# Altium schematic symbol library ICs.SCHLIB: 55 symbols
Pins are listed as number, name and electrical type; pins without a type are passive.

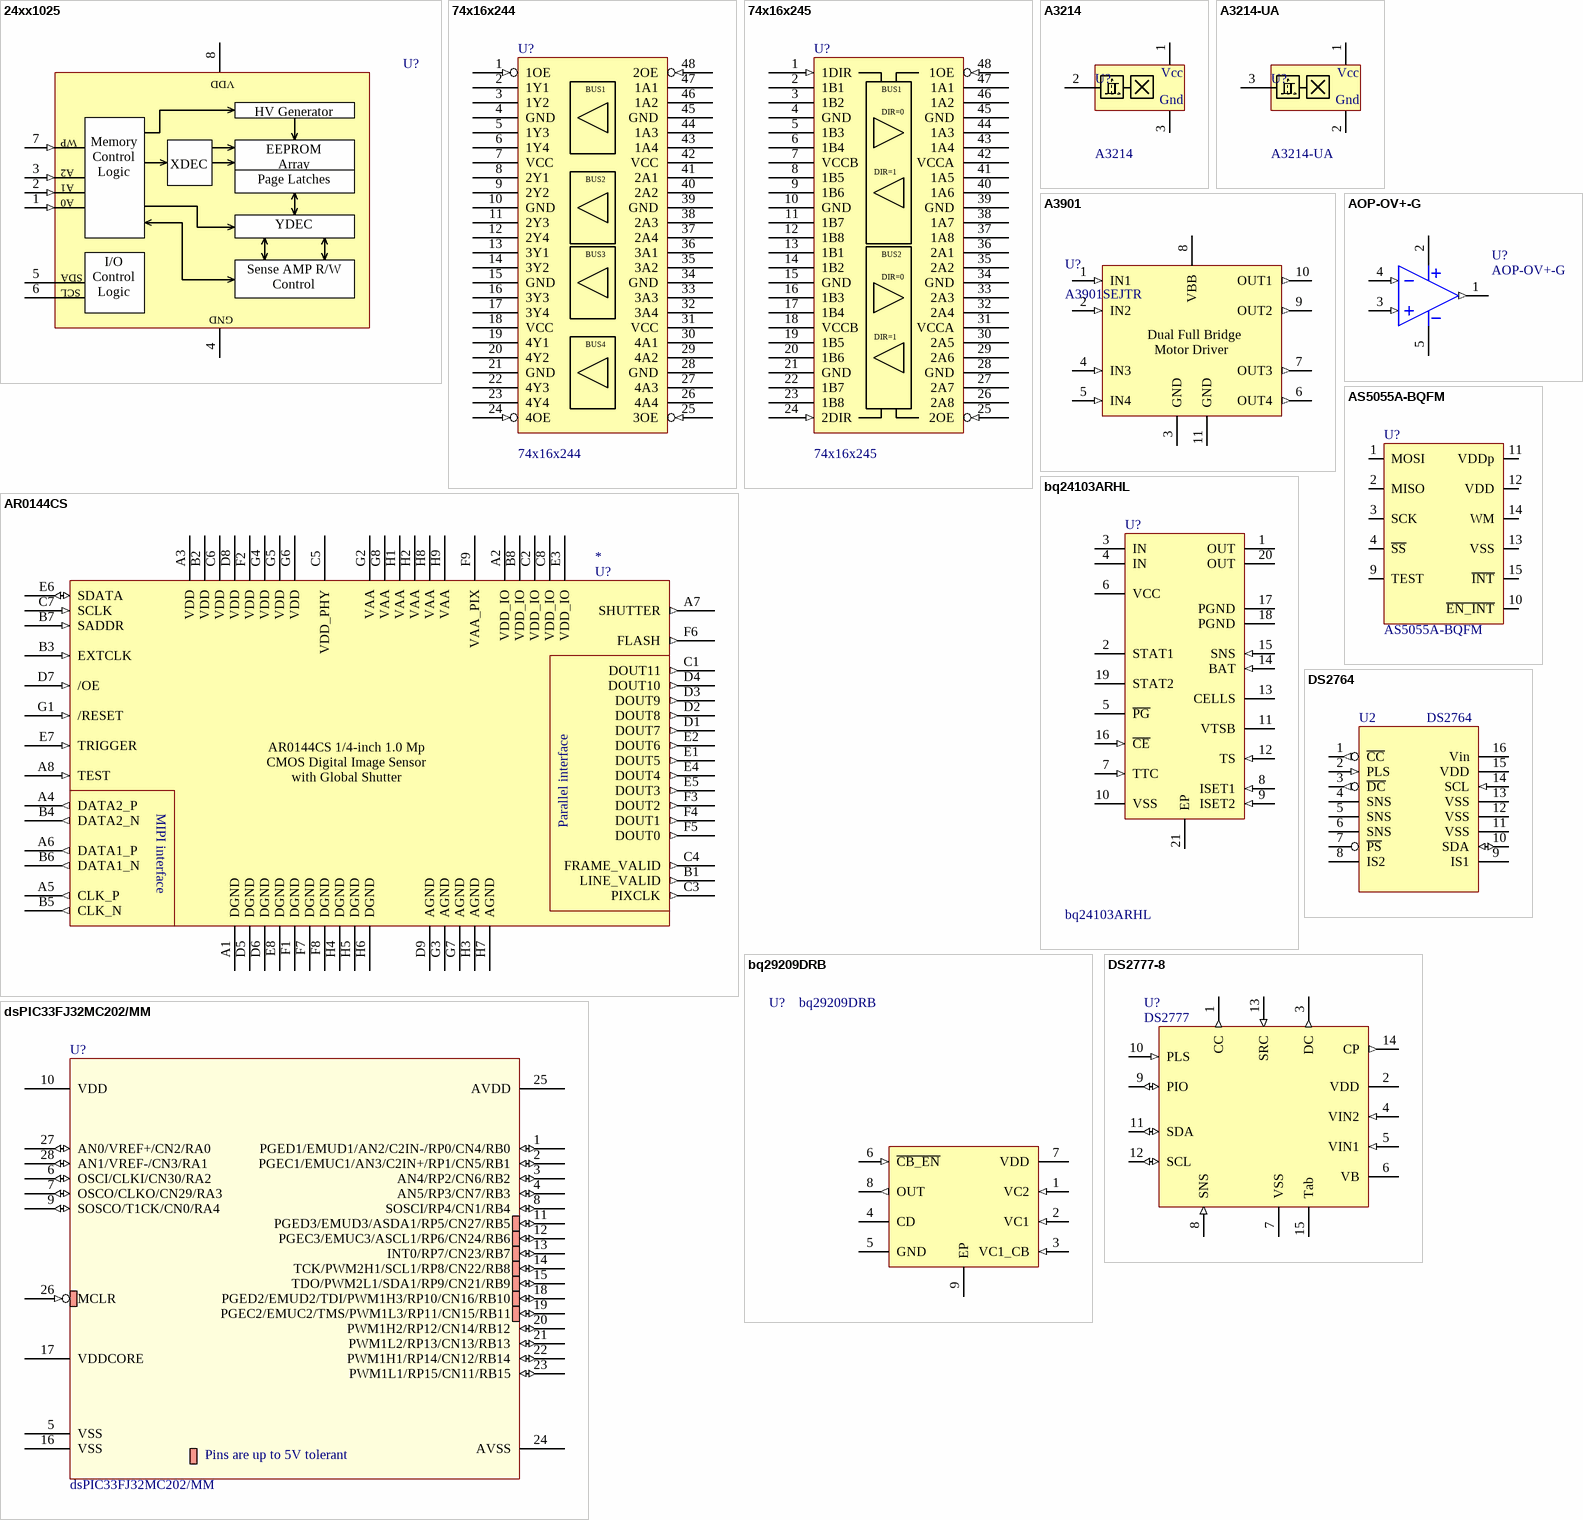
[diagram p0: symbols 24xx1025 to dsPIC33FJ32MC202/MM]

## 24xx1025
designator U?
1024K I2C CMOS Serial EEPROM
pins: 1 A0 (in), 2 A1 (in), 3 A2 (in), 4 GND (power), 5 SDA (oc), 6 SCL (oc), 7 WP (in), 8 VCC (power)
text: VDD; HV Generator; EEPROM / Array; / XDEC; Page Latches; / Memory Control Logic; YDEC; Sense AMP R/W Control; I/O Control Logic

## 74x16x244
designator U?
Low Voltage 16-Bit Buffer/Line Driver with Bushold
pins: 1 1OE (in), 2 1Y1, 3 1Y2, 4 GND (power), 5 1Y3, 6 1Y4, 7 VCC (power), 8 2Y1, 9 2Y2, 10 GND (power), 11 2Y3, 12 2Y4, 13 3Y1, 14 3Y2, 15 GND (power), 16 3Y3, 17 3Y4, 18 VCC (power), 19 4Y1, 20 4Y2, 21 GND (power), 22 4Y3, 23 4Y4, 24 4OE (in), 25 3OE (in), 26 4A4, 27 4A3, 28 GND (power), 29 4A2, 30 4A1, 31 VCC (power), 32 3A4, 33 3A3, 34 GND (power), 35 3A2, 36 3A1, 37 2A4, 38 2A3, 39 GND (power), 40 2A2, 41 2A1, 42 VCC (power), 43 1A4, 44 1A3, 45 GND (power), 46 1A2, 47 1A1, 48 2OE (in)
text: BUS1; BUS2; BUS3; BUS4

## 74x16x245
designator U?
pins: 1 1DIR (in), 2 1B1, 3 1B2, 4 GND (power), 5 1B3, 6 1B4, 7 VCCB (power), 8 1B5, 9 1B6, 10 GND (power), 11 1B7, 12 1B8, 13 1B1, 14 1B2, 15 GND (power), 16 1B3, 17 1B4, 18 VCCB (power), 19 1B5, 20 1B6, 21 GND (power), 22 1B7, 23 1B8, 24 2DIR (in), 25 2OE (in), 26 2A8, 27 2A7, 28 GND (power), 29 2A6, 30 2A5, 31 VCCA (power), 32 2A4, 33 2A3, 34 GND (power), 35 2A2, 36 2A1, 37 1A8, 38 1A7, 39 GND (power), 40 1A6, 41 1A5, 42 VCCA (power), 43 1A4, 44 1A3, 45 GND (power), 46 1A2, 47 1A1, 48 1OE (in)
text: BUS1; DIR=0; DIR=1; BUS2

## A3214
designator U?
Micropower ultra-sensitive Hall-Effect Switches, no SIP version; Publisher: Altium Limited
footprint SOT95P230X111-3L (SOT23, 3-Leads, Body 3.0x2.5mm (max), Pitch 0.95mm, IPC High Density)
pins: 1 VCC (power), 2 OUT (oc), 3 GND (power)
text: Vcc; Gnd

## A3214-UA
designator U?
Micropower ultra-sensitive Hall-Effect Switches, SIP version; Publisher: Altium Limited
footprint ALLEGRO-3214-UA (Micropower ultra-sensitive Hall-Effect Switches, UA package)
pins: 1 VCC (power), 2 GND (power), 3 OUT (oc)
text: Vcc; Gnd

## A3901
designator U?, comment A3901SEJTR
Dual Full Bridge Low Voltage Motor Driver
footprint SOIC127P1030-20N (SOIC, 20-Leads, Body 12.8x7.5mm, Pitch 1.27mm, IPC Medium Density)
pins: 1 IN1 (in) "Logic input 1", 2 IN2 (in) "Logic input 2", 3 GND (power) "Ground", 4 IN3 (in) "Logic input 3", 5 IN4 (in) "Logic input 4", 6 OUT4 (out) "Bridge 4 output", 7 OUT3 (out) "Bridge 3 output", 8 VBB (power) "Load supply", 9 OUT2 (out) "Bridge 2 output", 10 OUT1 (out) "Bridge 1 output", 11 GND (power) "Exposed pad for thermal dissipation; connect to GND externally"
text: Dual Full Bridge / Motor Driver

## AOP-OV+-G
designator U?
AOP-Output-Vcc-Plus-Minus-Gnd
pins: 1 OUT (out), 2 VCC (power), 3 IN+ (in), 4 IN- (in), 5 GND (power)

## AR0144CS
designator U?
AR0144CS 1/4‐inch 1.0 Mp CMOS Digital Image Sensor with Global Shutter
footprint ONSEMI-ODCSP69_570BBV (ODCSP69 5.545x5.565, CASE 570BV, ISSUE B)
pins: A1 DGND (power) "Digital GND", A2 VDD_IO (power) "I/O supply power", A3 VDD (power) "Digital power", A4 DATA2_P (out) "MIPI serial data, lane 2, differential P", A5 CLK_P (out) "MIPI serial clock differential P", A6 DATA1_P (out) "MIPI serial data, lane 1, differential P", A7 SHUTTER (out) "Control of external mechanical shutter", A8 TEST (in) "Manufacturing test enable pin (connect to DGND)", B1 LINE_VALID (out) "Asserted when DOUT line data is valid", B2 VDD (power) "Digital power", B3 EXTCLK (in) "External input clock", B4 DATA2_N (out) "MIPI serial data, lane 2, differential N", B5 CLK_N (out) "MIPI serial clock differential N", B6 DATA1_N (out) "MIPI serial data, lane 1, differential N", B7 SADDR (in) "Two-Wire Serial address select", B8 VDD_IO (power) "I/O supply power", C1 DOUT11 (out) "Parallel pixel data output", C2 VDD_IO (power) "I/O supply power", C3 PIXCLK (out) "Pixel clock out. DOUT is valid on rising edge of this clock", C4 FRAME_VALID (out) "Asserted when DOUT frame data is valid", C5 VDD_PHY (power) "MIPI power supply (1.2 V)", C6 VDD (power) "Digital power", C7 SCLK (in) "Two-Wire Serial clock input", C8 VDD_IO (power) "I/O supply power", D1 DOUT7 (out) "Parallel pixel data output", D2 DOUT8 (out) "Parallel pixel data output", D3 DOUT9 (out) "Parallel pixel data output", D4 DOUT10 (out) "Parallel pixel data output", D5 DGND (power) "Digital GND", D6 DGND (power) "Digital GND", D7 /OE (in) "Output enable (active LOW)", D8 VDD (power) "Digital power", D9 AGND (power) "Analog GND", E1 DOUT5 (out) "Parallel pixel data output", E2 DOUT6 (out) "Parallel pixel data output", E3 VDD_IO (power) "I/O supply power", E4 DOUT4 (out) "Parallel pixel data output", E5 DOUT3 (out) "Parallel pixel data output", E6 SDATA (io) "Two-Wire Serial data I/O", E7 TRIGGER (in) "Exposure synchronization input", E8 DGND (power) "Digital GND", F1 DGND (power) "Digital GND", F2 VDD (power) "Digital power", F3 DOUT2 (out) "Parallel pixel data output", F4 DOUT1 (out) "Parallel pixel data output", F5 DOUT0 (out) "Parallel pixel data output", F6 FLASH (out) "Control signal to drive external light sources", F7 DGND (power) "Digital GND", F8 DGND (power) "Digital GND", F9 VAA_PIX (power) "Pixel power", G1 /RESET (in) "Asynchronous reset (active LOW). All settings are restored to factory", G2 VAA (power) "Analog Power", G3 AGND (power) "Analog GND", G4 VDD (power) "Digital power", G5 VDD (power) "Digital power", G6 VDD (power) "Digital power", G7 AGND (power) "Analog GND", G8 VAA (power) "Analog Power", H1 VAA (power) "Analog Power", H2 VAA (power) "Analog Power", H3 AGND (power) "Analog GND", H4 DGND (power) "Digital GND", H5 DGND (power) "Digital GND", H6 DGND (power) "Digital GND", H7 AGND (power) "Analog GND", H8 VAA (power) "Analog Power", H9 VAA (power) "Analog Power"
text: MIPI interface; Parallel interface

## AS5055A-BQFM
designator U?
IC ENCODER ROTARY 12BIT 16QFN; Manufacturer: ams; Statut de la pièce: Actif; Pour la mesure: Angle; Technologie: Effet Hall; Angle de rotation - Électrique, mécanique: 0° ~ 360°, Modes continue; Sortie: SPI; Type d’actionneur: Aimant externe, non inclus; Linéarité: ±1,41°; Alimentation en tension: 3 V ~ 3,6 V; Type de montage: Montage en surface; Style de terminaison: Languette CMS (SMT); Température d’utilisation: -40°C ~ 85°C; Supplier 1: Digi-Key; RoHS: RoHS Compliant; Category: Capteurs, transducteurs; Stock 1: 6192; Pricing 1: 1=6.54, 10=5.885, 25=5.362, 100=4.8388, 250=4.44644 (EUR); Plage linéaire: -; Signal de sortie: -; Résistance (Ohms): -; Tolérance de résistance: -; ComponentLink1URL: http://ams.com/eng/content/download/552323/1541717/300455; ComponentLink1Description: http://ams.com/eng/content/download/552323/1541717/300455; Supplier 2: RSComponents; Manufacturer Part Number: AS5055A-BQFM; Supplier Part Number 1: AS5055A-BQFMCT-ND; Supplier Part Number 2: 423478
footprint QFN4X4-16 - EPAD unconnected (Quad Flat No Lead, Plastic; 16 Terminals; Body 4 x 4 mm; Pitch 0.65 mm)
pins: 1 MOSI, 2 MISO, 3 SCK, 4 ~{SS}, 9 TEST, 10 ~{EN_INT}, 11 VDDp, 12 VDD, 13 VSS, 14 WM, 15 ~{INT}

## bq24103ARHL
designator U?
Synchronous Switch-Mode 2-Cell Li-Ion Charger with 2 A FET, Enhanced EMI Performance, 4.3 V, -40 to 85 degC, 20-pin QFN (RHL), Green (RoHS & no Sb/Br); Manufacturer: Texas Instruments; Over Voltage Protection: N; SubFamily: Battery Charge Management; Li-Ion: Y; Vin(Min)(V): 4.3; Eco-Plan: Green (RoHS & no Sb/Br); NiCd: N; PackageDescription: 20-Leads Plastic Quad Flatpack No-Lead, 4.5 x 3.5 x 0.9 mm Body, 0.5 mm Pitch, Exposed Pad; PartNumber: bq24103ARHL; ComponentLink1Description: Datasheet; PackageReference: RHL20-3050X2050TP; PackageVersion: revJ, Dec-2011; Mounting Technology: Surface Mount; DatasheetVersion: SLUS688G; Lead Acid: N; ComponentLink1URL: http://www.ti.com/general/docs/lit/getliterature.tsp?genericPartNumber=BQ24123&fileType=pdf; Li-Polymer: Y; NiMH: N
footprint RHL20-3050X2050TP (QFN, 20-Leads, Body 4.5x3.5mm, Pitch 0.5mm, Thermal Pad 3.05x2.05mm, TI Recommended)
pins: 1 OUT (power) "Charge current output inductor connection. Connect a zener TVS diode between OUT pin and PGND to clamp the voltage spike to protect the power MOSFETs during abnormal conditions.", 2 STAT1 (oc) "Charge status 1 (open-drain output). When the transistor turns on indicates charge in process. When it is off and with the condition of STAT2 indicates various charger conditions (See Table 1)", 3 IN (power) "Charger input voltage. Bypass it with a 10 uF capacitor from IN to PGND.", 4 IN (power) "Charger input voltage. Bypass it with a 10 uF capacitor from IN to PGND.", 5 ~{PG} (oc) "Power-good status output (open drain). The transistor turns on when a valid VCC is detected. It is turned off in the sleep mode. P\G\ can be used to drive a LED or communicate with a host processor.", 6 VCC (power) "Analog device input. A 0.1uF capacitor to VSS is required.", 7 TTC (in) "Timer and termination control. Connect a capacitor from this node to VSS to set the bqSWITCHER timer. When this input is low, the timer and termination detection are disabled.", 8 ISET1 (in) "Charger current set point 1 (fast charge). Use a resistor to ground to set this value.", 9 ISET2 (in) "Charge current set point 2 (precharge and termination), set by a resistor connected to ground.", 10 VSS (power) "Analog ground input.", 11 VTSB "TS internal bias regulator voltage. Connect capacitor (with a value between a 0.1uF and 1uF) between this output and VSS.", 12 TS (in) "Temperature sense input. This input monitors its voltage against an internal threshold to determine if charging is allowed. Use an NTC thermistor and a voltage divider powered from VTSB to develop this voltage. (See Figure (See Datasheet)", 13 CELLS "Available on parts with selectable output voltage. Ground or float for single-cell operation (4.2 V). For two-cell operation (8.4 V) pull up this pin with a resistor to VIN.", 14 BAT (in) "Battery voltage sense input. Bypass it with a capacitor to VSS if there are long inductive leads to battery.", 15 SNS (in) "Charge current-sense input. Battery current is sensed via the voltage drop developed on this pin by an external sense resistor in series with the battery pack. A 0.1uF capacitor to VSS is required.", 16 ~{CE} (in) "Charger enable input. This active low input, if set high, suspends charge and places the device in the low-power sleep mode. Do not pull up this input to VTSB.", 17 PGND (power) "Power ground input", 18 PGND (power) "Power ground input", 19 STAT2 (oc) "Charge status 2 (open-drain output). When the transistor turns on indicates charge is done. When it is off and with the condition of STAT1 indicates various charger conditions (See Table 1)", 20 OUT (power) "Charge current output inductor connection. Connect a zener TVS diode between OUT pin and PGND to clamp the voltage spike to protect the power MOSFETs during abnormal conditions.", 21 EP (power) "There is an internal electrical connection between the exposed thermal pad and VSS. The exposed thermal pad must be connected to the same potential as the VSS pin on the printed circuit board. The power pad can be used as a (See Datasheet)"

## bq29209DRB
designator U?
Voltage Protection with Automatic Cell Balance for 2-Cell Li-Ion Batteries, OVP=4.3 V, -40 to 85 degC, 8-pin SON (DRB), Green (RoHS & no Sb/Br); Manufacturer: Texas Instruments; Over Voltage Protection: N; SubFamily: Lithium Ion Protection; Mounting Technology: Surface Mount; PackageDescription: 8-Pin Plastic Small Outline No-Lead, 3 x 3 x 1 mm Body, 0.65 mm Pitch, Exposed Pad; ComponentLink1Description: Datasheet; PackageVersion: revK, Jun-2012; Li-Ion: N; Li-Polymer: N; PartNumber: bq29209DRB; DatasheetVersion: SLUSA52A; NiCd: N; ComponentLink1URL: http://www.ti.com/general/docs/lit/getliterature.tsp?genericPartNumber=BQ29209&fileType=pdf; PackageReference: DRB8-2400X1650TP; NiMH: N; Eco-Plan: Green (RoHS & no Sb/Br); Lead Acid: N
footprint DRB8-2400X1650TP (SON, 8-Leads, Body 3x3mm, Pitch 0.65mm, Thermal Pad 2.4x1.65mm, TI Recommended)
pins: 1 VC2 (in) "Sense voltage input for top cell", 2 VC1 (in) "Sense voltage input for bottom cell", 3 VC1_CB (in) "Cell balance input for bottom cell", 4 CD "Connection to external capacitor for programmable delay time", 5 GND (power) "Ground pin", 6 ~{CB_EN} (in) "Cell balance enable", 7 VDD (power) "Power supply", 8 OUT (out) "Output", 9 EP "Exposed Thermal Pad"

## DS2764
designator U2
Li+ Battery Monitor; RefSupplier: DS2764AE+; Supplier: Maxim; Type: Maxim; FootprintORG: TSOP65P640-16AM
footprint TSOP65P640-16AM (TSOP, 16-Leads, Body 5x4.4mm, Pitch 0.65mm, IPC Low Density)
pins: 1 ~{CC} (out), 2 PLS (in), 3 ~{DC} (out), 4 SNS, 5 SNS, 6 SNS, 7 ~{PS}, 8 IS2, 9 IS1, 10 SDA (io), 11 VSS, 12 VSS, 13 VSS, 14 SCL (in), 15 VDD (power), 16 Vin (power)

## DS2777-8
designator U?, comment DS2777
2-Cell, Stand-Alone, Li+ Fuel-Gauge IC with Protector and Optional SHA-1 Authentication; Manufacturer: Maxim; Manufacturer Nr: DS2777G+; Preference: 1; Currentie: CHF; Footprint Acort: ToDefine; Supplier: Farnell; ROHS: True
footprint ToDefine
pins: 1 CC (out) "Charge Control. Charge FET control output.", 2 VDD (power) "Chip-Supply Input. Bypass with 0.1uF to VSS.", 3 DC (out) "Discharge Control. Discharge FET control output.", 4 VIN2 (in) "Battery Voltage Sense Input 2. Connect to highest voltage potential positive cell terminal through  decoupling network.", 5 VIN1 (in) "Battery Voltage Sense Input 1. Connect to lowest voltage potential positive cell terminal through  decoupling network.", 6 VB (power) "Regulated Operating Voltage. Bypass with 0.1uF to VSS.", 7 VSS (power) "Device Ground. Chip ground and battery-side sense resistor input.", 8 SNS (in) "Sense Resistor Connection. Pack-side sense resistor sense input.", 9 PIO (io) "Programmable I/O. Can be configured as wake input.", 10 PLS (in) "Pack Plus Terminal Sense Input. Used to detect the removal of short-circuit, discharge overcurrent, and  charge overcurrent conditions.", 11 SDA (io) "Data Input/Output. Serial data I/O, includes weak pulldown to detect system disconnect.", 12 SCL (io) "Serial communication clock.", 13 SRC (in) "Protection MOSFET Source Connection. Used as a reference for the charge pump.", 14 CP (out) "Charge Pump Output. Generates gate drive voltage for protection FETs. Bypass with 0.47uF to SRC.", 15 Tab (power) "Exposed Pad. Connect to ground or leave unconnected."

## dsPIC33FJ32MC202/MM
designator U?
16-Bit CMOS dsPIC DSC Motor Control With 32kB Flash, 2kB Ram, 1 ADC, 1 I2C, 1 RS, 1 SPI, QFN28
pins: 1 PGED1/EMUD1/AN2/C2IN-/RP0/CN4/RB0 (io), 2 PGEC1/EMUC1/AN3/C2IN+/RP1/CN5/RB1 (io), 3 AN4/RP2/CN6/RB2 (io), 4 AN5/RP3/CN7/RB3 (io), 5 VSS (power), 6 OSCI/CLKI/CN30/RA2 (io), 7 OSCO/CLKO/CN29/RA3 (io), 8 SOSCI/RP4/CN1/RB4 (io), 9 SOSCO/T1CK/CN0/RA4 (io), 10 VDD (power), 11 PGED3/EMUD3/ASDA1/RP5/CN27/RB5 (io), 12 PGEC3/EMUC3/ASCL1/RP6/CN24/RB6 (io), 13 INT0/RP7/CN23/RB7 (io), 14 TCK/PWM2H1/SCL1/RP8/CN22/RB8 (io), 15 TDO/PWM2L1/SDA1/RP9/CN21/RB9 (io), 16 VSS (power), 17 VDDCORE (power), 18 PGED2/EMUD2/TDI/PWM1H3/RP10/CN16/RB10 (io), 19 PGEC2/EMUC2/TMS/PWM1L3/RP11/CN15/RB11 (io), 20 PWM1H2/RP12/CN14/RB12 (io), 21 PWM1L2/RP13/CN13/RB13 (io), 22 PWM1H1/RP14/CN12/RB14 (io), 23 PWM1L1/RP15/CN11/RB15 (io), 24 AVSS (power), 25 AVDD (power), 26 MCLR (in), 27 AN0/VREF+/CN2/RA0 (io), 28 AN1/VREF-/CN3/RA1 (io), 29 TAB (power) hidden
text: Pins are up to 5V tolerant

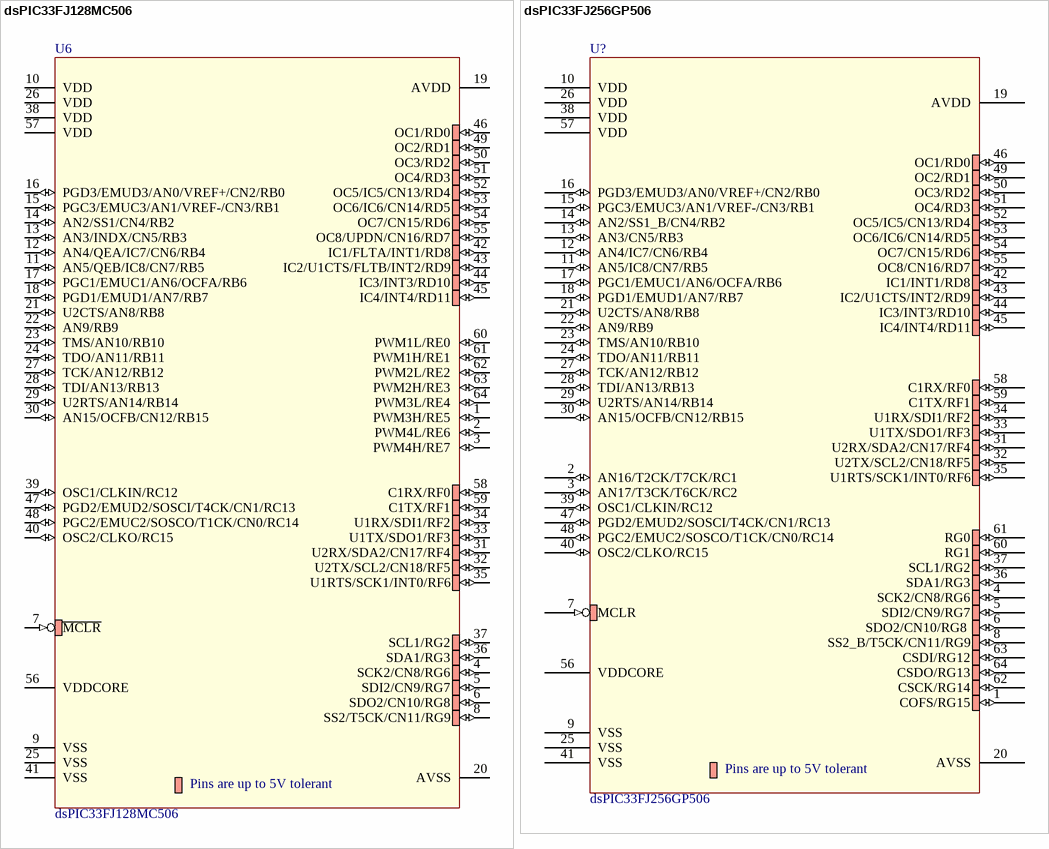
[diagram p1: symbols dsPIC33FJ128MC506 to dsPIC33FJ256GP506]

## dsPIC33FJ128MC506
designator U6
16-Bit CMOS dsPIC DSC Motor control With 128kB Flash, 16kB Ram, 1 ADC, 1 ECAN, 2 I2Cs, 2 RSs, 2 SPIs
footprint STQFP64 (Footprint not found)
pins: 1 PWM3H/RE5 (io), 2 PWM4L/RE6 (io), 3 PWM4H/RE7 (io), 4 SCK2/CN8/RG6 (io), 5 SDI2/CN9/RG7 (io), 6 SDO2/CN10/RG8 (io), 7 ~{MCLR} (in), 8 SS2/T5CK/CN11/RG9 (io), 9 VSS (power), 10 VDD (power), 11 AN5/QEB/IC8/CN7/RB5 (io), 12 AN4/QEA/IC7/CN6/RB4 (io), 13 AN3/INDX/CN5/RB3 (io), 14 AN2/SS1/CN4/RB2 (io), 15 PGC3/EMUC3/AN1/VREF-/CN3/RB1 (io), 16 PGD3/EMUD3/AN0/VREF+/CN2/RB0 (io), 17 PGC1/EMUC1/AN6/OCFA/RB6 (io), 18 PGD1/EMUD1/AN7/RB7 (io), 19 AVDD (power), 20 AVSS (power), 21 U2CTS/AN8/RB8 (io), 22 AN9/RB9 (io), 23 TMS/AN10/RB10 (io), 24 TDO/AN11/RB11 (io), 25 VSS (power), 26 VDD (power), 27 TCK/AN12/RB12 (io), 28 TDI/AN13/RB13 (io), 29 U2RTS/AN14/RB14 (io), 30 AN15/OCFB/CN12/RB15 (io), 31 U2RX/SDA2/CN17/RF4 (io), 32 U2TX/SCL2/CN18/RF5 (io), 33 U1TX/SDO1/RF3 (io), 34 U1RX/SDI1/RF2 (io), 35 U1RTS/SCK1/INT0/RF6 (io), 36 SDA1/RG3 (io), 37 SCL1/RG2 (io), 38 VDD (power), 39 OSC1/CLKIN/RC12 (io), 40 OSC2/CLKO/RC15 (io), 41 VSS (power), 42 IC1/FLTA/INT1/RD8 (io), 43 IC2/U1CTS/FLTB/INT2/RD9 (io), 44 IC3/INT3/RD10 (io), 45 IC4/INT4/RD11 (io), 46 OC1/RD0 (io), 47 PGD2/EMUD2/SOSCI/T4CK/CN1/RC13 (io), 48 PGC2/EMUC2/SOSCO/T1CK/CN0/RC14 (io), 49 OC2/RD1 (io), 50 OC3/RD2 (io), 51 OC4/RD3 (io), 52 OC5/IC5/CN13/RD4 (io), 53 OC6/IC6/CN14/RD5 (io), 54 OC7/CN15/RD6 (io), 55 OC8/UPDN/CN16/RD7 (io), 56 VDDCORE (power), 57 VDD (power), 58 C1RX/RF0 (io), 59 C1TX/RF1 (io), 60 PWM1L/RE0 (io), 61 PWM1H/RE1 (io), 62 PWM2L/RE2 (io), 63 PWM2H/RE3 (io), 64 PWM3L/RE4 (io)
text: Pins are up to 5V tolerant

## dsPIC33FJ256GP506
designator U?
16-Bit CMOS dsPIC DSC General purpose With 256kB Flash, 16kB Ram, 1 ADC, 1 ECAN, 2 I2Cs, 2 RSs, 2 SPIs, TQF64
pins: 1 COFS/RG15 (io), 2 AN16/T2CK/T7CK/RC1 (io), 3 AN17/T3CK/T6CK/RC2 (io), 4 SCK2/CN8/RG6 (io), 5 SDI2/CN9/RG7 (io), 6 SDO2/CN10/RG8  (io), 7 MCLR (in), 8 SS2_B/T5CK/CN11/RG9 (io), 9 VSS (power), 10 VDD (power), 11 AN5/IC8/CN7/RB5  (io), 12 AN4/IC7/CN6/RB4  (io), 13 AN3/CN5/RB3  (io), 14 AN2/SS1_B/CN4/RB2  (io), 15 PGC3/EMUC3/AN1/VREF-/CN3/RB1  (io), 16 PGD3/EMUD3/AN0/VREF+/CN2/RB0  (io), 17 PGC1/EMUC1/AN6/OCFA/RB6 (io), 18 PGD1/EMUD1/AN7/RB7 (io), 19 AVDD (power), 20 AVSS (power), 21 U2CTS/AN8/RB8 (io), 22 AN9/RB9 (io), 23 TMS/AN10/RB10 (io), 24 TDO/AN11/RB11 (io), 25 VSS (power), 26 VDD (power), 27 TCK/AN12/RB12 (io), 28 TDI/AN13/RB13 (io), 29 U2RTS/AN14/RB14 (io), 30 AN15/OCFB/CN12/RB15 (io), 31 U2RX/SDA2/CN17/RF4 (io), 32 U2TX/SCL2/CN18/RF5 (io), 33 U1TX/SDO1/RF3 (io), 34 U1RX/SDI1/RF2 (io), 35 U1RTS/SCK1/INT0/RF6 (io), 36 SDA1/RG3 (io), 37 SCL1/RG2 (io), 38 VDD (power), 39 OSC1/CLKIN/RC12 (io), 40 OSC2/CLKO/RC15 (io), 41 VSS (power), 42 IC1/INT1/RD8 (io), 43 IC2/U1CTS/INT2/RD9 (io), 44 IC3/INT3/RD10 (io), 45 IC4/INT4/RD11 (io), 46 OC1/RD0 (io), 47 PGD2/EMUD2/SOSCI/T4CK/CN1/RC13 (io), 48 PGC2/EMUC2/SOSCO/T1CK/CN0/RC14 (io), 49 OC2/RD1 (io), 50 OC3/RD2 (io), 51 OC4/RD3 (io), 52 OC5/IC5/CN13/RD4 (io), 53 OC6/IC6/CN14/RD5 (io), 54 OC7/CN15/RD6 (io), 55 OC8/CN16/RD7 (io), 56 VDDCORE (power), 57 VDD (power), 58 C1RX/RF0 (io), 59 C1TX/RF1 (io), 60 RG1 (io), 61 RG0 (io), 62 CSCK/RG14 (io), 63 CSDI/RG12 (io), 64 CSDO/RG13 (io)
text: Pins are up to 5V tolerant

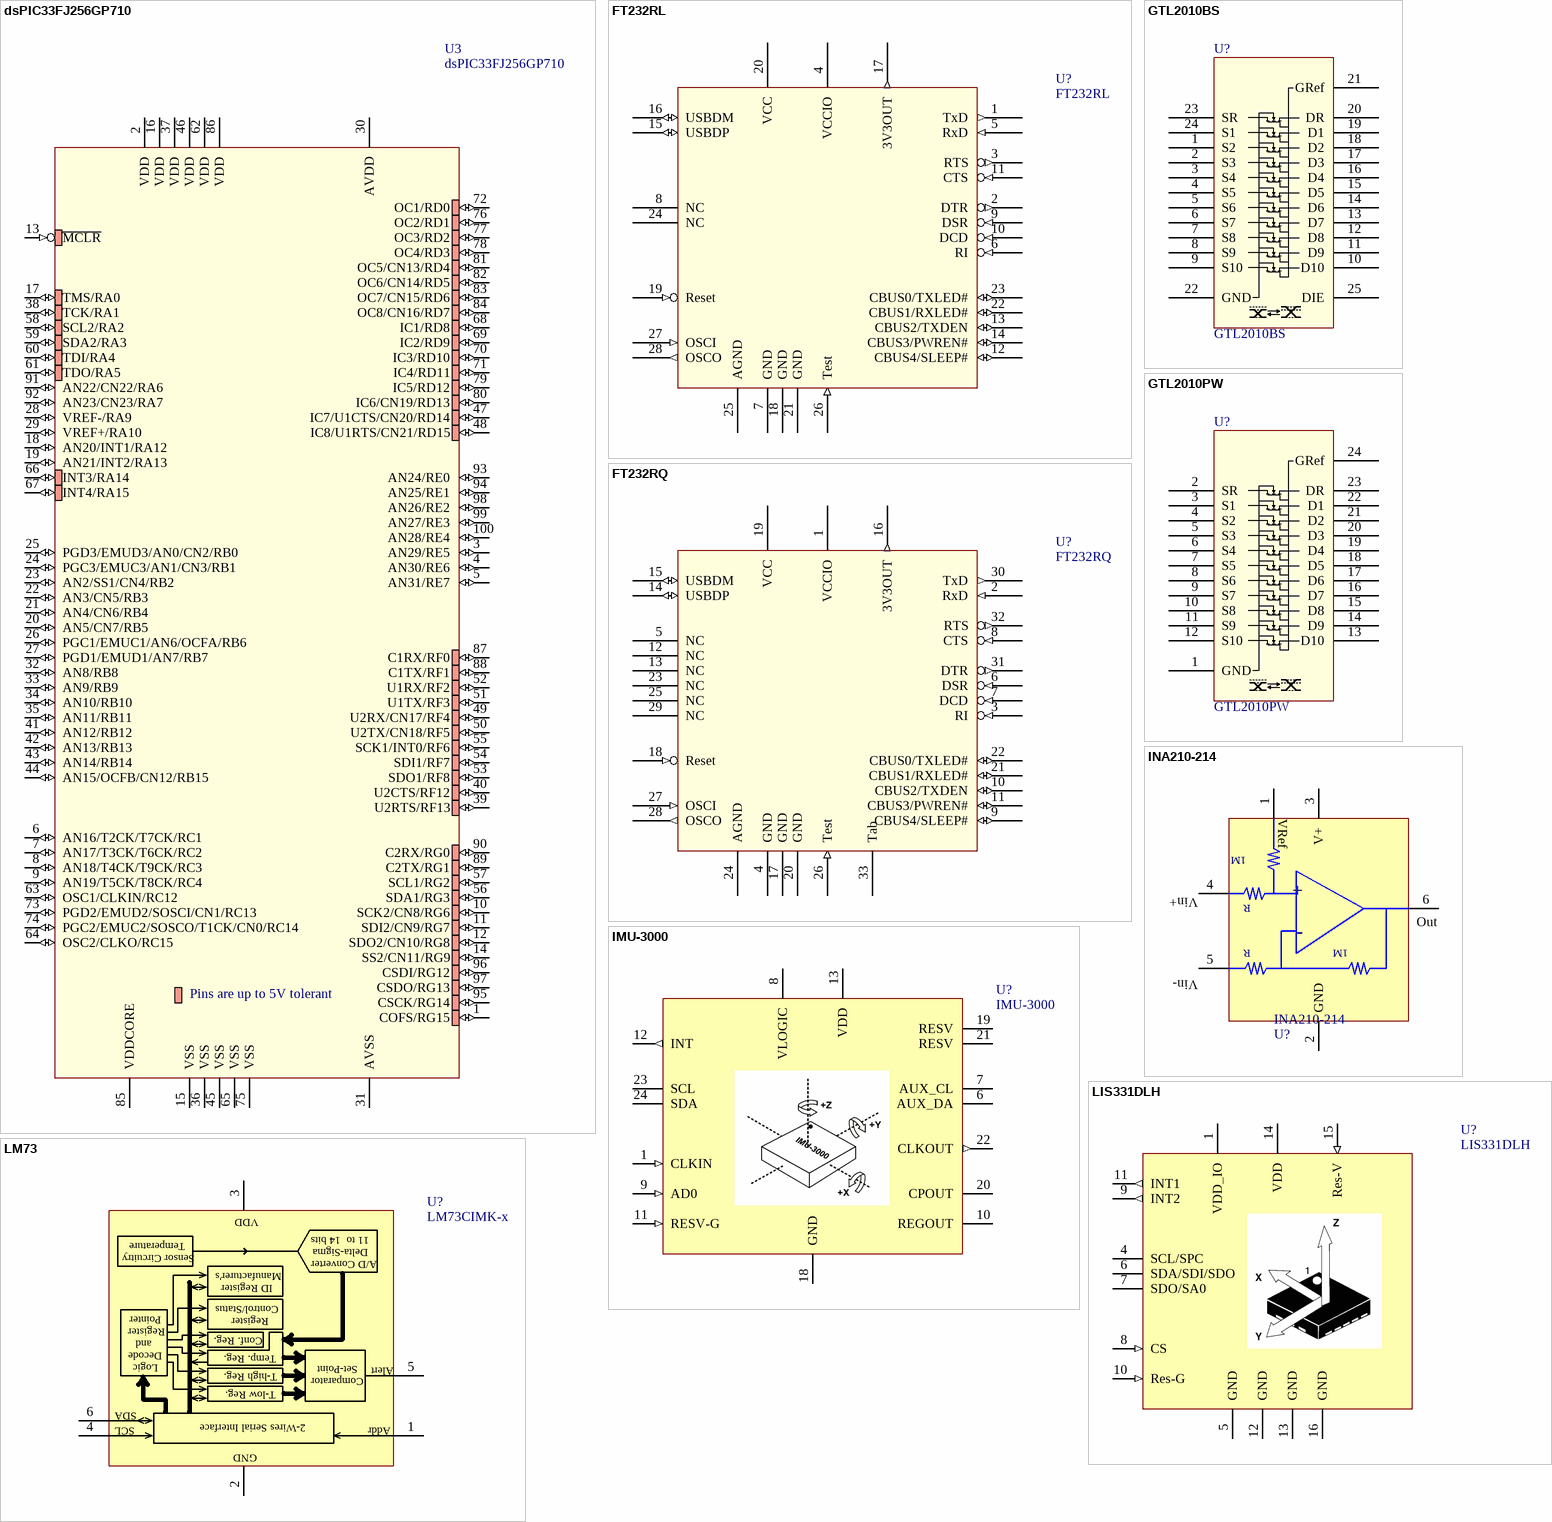
[diagram p2: symbols dsPIC33FJ256GP710 to LM73]

## dsPIC33FJ256GP710
designator U3
16-Bit CMOS dsPIC DSC General Purpose With 256kB Flash, 32kB Ram, 2 ADC, 2 ECAN, 2 I2Cs, 2 RSs, 2 SPIs, TQF100
footprint TQFP12X12_100_04MM (Footprint not found)
pins: 1 COFS/RG15 (io), 2 VDD (power), 3 AN29/RE5 (io), 4 AN30/RE6 (io), 5 AN31/RE7 (io), 6 AN16/T2CK/T7CK/RC1 (io), 7 AN17/T3CK/T6CK/RC2 (io), 8 AN18/T4CK/T9CK/RC3 (io), 9 AN19/T5CK/T8CK/RC4 (io), 10 SCK2/CN8/RG6 (io), 11 SDI2/CN9/RG7 (io), 12 SDO2/CN10/RG8 (io), 13 ~{MCLR} (in), 14 SS2/CN11/RG9 (io), 15 VSS (power), 16 VDD (power), 17 TMS/RA0 (io), 18 AN20/INT1/RA12 (io), 19 AN21/INT2/RA13 (io), 20 AN5/CN7/RB5 (io), 21 AN4/CN6/RB4 (io), 22 AN3/CN5/RB3 (io), 23 AN2/SS1/CN4/RB2 (io), 24 PGC3/EMUC3/AN1/CN3/RB1 (io), 25 PGD3/EMUD3/AN0/CN2/RB0 (io), 26 PGC1/EMUC1/AN6/OCFA/RB6 (io), 27 PGD1/EMUD1/AN7/RB7 (io), 28 VREF-/RA9 (io), 29 VREF+/RA10 (io), 30 AVDD (power), 31 AVSS (power), 32 AN8/RB8 (io), 33 AN9/RB9 (io), 34 AN10/RB10 (io), 35 AN11/RB11 (io), 36 VSS (power), 37 VDD (power), 38 TCK/RA1 (io), 39 U2RTS/RF13 (io), 40 U2CTS/RF12 (io), 41 AN12/RB12 (io), 42 AN13/RB13 (io), 43 AN14/RB14 (io), 44 AN15/OCFB/CN12/RB15 (io), 45 VSS (power), 46 VDD (power), 47 IC7/U1CTS/CN20/RD14 (io), 48 IC8/U1RTS/CN21/RD15 (io), 49 U2RX/CN17/RF4 (io), 50 U2TX/CN18/RF5 (io), 51 U1TX/RF3 (io), 52 U1RX/RF2 (io), 53 SDO1/RF8 (io), 54 SDI1/RF7 (io), 55 SCK1/INT0/RF6 (io), 56 SDA1/RG3 (io), 57 SCL1/RG2 (io), 58 SCL2/RA2 (io), 59 SDA2/RA3 (io), 60 TDI/RA4 (io), 61 TDO/RA5 (io), 62 VDD (power), 63 OSC1/CLKIN/RC12 (io), 64 OSC2/CLKO/RC15 (io), 65 VSS (power), 66 INT3/RA14 (io), 67 INT4/RA15 (io), 68 IC1/RD8 (io), 69 IC2/RD9 (io), 70 IC3/RD10 (io), 71 IC4/RD11 (io), 72 OC1/RD0 (io), 73 PGD2/EMUD2/SOSCI/CN1/RC13 (io), 74 PGC2/EMUC2/SOSCO/T1CK/CN0/RC14 (io), 75 VSS (power), 76 OC2/RD1 (io), 77 OC3/RD2 (io), 78 OC4/RD3 (io), 79 IC5/RD12 (io), 80 IC6/CN19/RD13 (io), 81 OC5/CN13/RD4 (io), 82 OC6/CN14/RD5 (io), 83 OC7/CN15/RD6 (io), 84 OC8/CN16/RD7 (io), 85 VDDCORE (power), 86 VDD (power), 87 C1RX/RF0 (io), 88 C1TX/RF1 (io), 89 C2TX/RG1 (io), 90 C2RX/RG0 (io), 91 AN22/CN22/RA6 (io), 92 AN23/CN23/RA7 (io), 93 AN24/RE0 (io), 94 AN25/RE1 (io), 95 CSCK/RG14 (io), 96 CSDI/RG12 (io), 97 CSDO/RG13 (io), 98 AN26/RE2 (io), 99 AN27/RE3 (io), 100 AN28/RE4 (io)
text: Pins are up to 5V tolerant

## FT232RL
designator U?
FT232R USB-UART Converter
pins: 1 TxD (out) "Transmit Asynchronous Data Output", 2 DTR (out) "Data Terminal Ready Control Output / Handshake signal", 3 RTS (out) "Request To Send Control Output / Handshake signal", 4 VCCIO (power) "1.8 to VCC", 5 RxD (in) "Receive Asynchronous Data Input", 6 RI (in) "Ring Indicator Control Input. When remote wake up is enabled in the internal EEPROM taking RI# low can be used to resume the PC USB host controller from suspend", 7 GND (power), 8 NC "No internal connection", 9 DSR (in) "Data Set Ready Control Input / Handshake signal", 10 DCD (in) "Data Carrier Detect Control input", 11 CTS (in) "Clear to Send Control input / Handshake signal", 12 CBUS4/SLEEP# (io) "Factory Default function is SLEEP#", 13 CBUS2/TXDEN (io) "Factory Default function is TXDEN", 14 CBUS3/PWREN# (io) "Factory Default function is PWREN#", 15 USBDP (io) "USB Data Signal Plus, incorporating internal series resistor and 1.5kO pull up resistor to 3.3V", 16 USBDM (io) "USB Data Signal Minus, incorporating internal series resistor", 17 3V3OUT (out) "3.3V output from integrated L.D.O. regulator. This pin should be decoupled to ground using a 100nF capacitor. The prime purpose of this pin is to provide the internal 3.3V supply to the USB transceiver cell and the internal 1.5kO pull up resistor on USBDP. Up to 50mA can be drawn from this pin to power external logic if required. This pin can also be used to supply the FT232R’s VCCIO pin", 18 GND (power), 19 Reset (in) "Can be used by an external device to reset the FT232R. If not required can be left unconnected or pulled up to VCCIO", 20 VCC (power) "3.3 to 5.25 V", 21 GND (power), 22 CBUS1/RXLED# (io) "Factory Default function is RXLED#", 23 CBUS0/TXLED# (io) "Factory Default function is TXLED#", 24 NC "No internal connection", 25 AGND (power), 26 Test (in) "For test purpose. Must be tied to GND for normal operation", 27 OSCI (in) "Input to 12MHz Oscillator Cell. Optional - Can be left unconnected for normal operation", 28 OSCO (out) "Output from 12MHz Oscillator Cell. Optional - Can be left unconnected for normal operation if internal oscillator  is used"

## FT232RQ
designator U?
FT232R USB-UART Converter
pins: 1 VCCIO (power) "1.8 to VCC", 2 RxD (in) "Receive Asynchronous Data Input", 3 RI (in) "Ring Indicator Control Input. When remote wake up is enabled in the internal EEPROM taking RI# low can be used to resume the PC USB host controller from suspend", 4 GND (power), 5 NC "No internal connection", 6 DSR (in) "Data Set Ready Control Input / Handshake signal", 7 DCD (in) "Data Carrier Detect Control input", 8 CTS (in) "Clear to Send Control input / Handshake signal", 9 CBUS4/SLEEP# (io) "Factory Default function is SLEEP#", 10 CBUS2/TXDEN (io) "Factory Default function is TXDEN", 11 CBUS3/PWREN# (io) "Factory Default function is PWREN#", 12 NC "No internal connection", 13 NC "No internal connection", 14 USBDP (io) "USB Data Signal Plus, incorporating internal series resistor and 1.5kO pull up resistor to 3.3V", 15 USBDM (io) "USB Data Signal Minus, incorporating internal series resistor", 16 3V3OUT (out) "3.3V output from integrated L.D.O. regulator. This pin should be decoupled to ground using a 100nF capacitor. The prime purpose of this pin is to provide the internal 3.3V supply to the USB transceiver cell and the internal 1.5kO pull up resistor on USBDP. Up to 50mA can be drawn from this pin to power external logic if required. This pin can also be used to supply the FT232R’s VCCIO pin", 17 GND (power), 18 Reset (in) "Can be used by an external device to reset the FT232R. If not required can be left unconnected or pulled up to VCCIO", 19 VCC (power) "3.3 to 5.25 V", 20 GND (power), 21 CBUS1/RXLED# (io) "Factory Default function is RXLED#", 22 CBUS0/TXLED# (io) "Factory Default function is TXLED#", 23 NC "No internal connection", 24 AGND (power), 25 NC "No internal connection", 26 Test (in) "For test purpose. Must be tied to GND for normal operation", 27 OSCI (in) "Input to 12MHz Oscillator Cell. Optional - Can be left unconnected for normal operation", 28 OSCO (out) "Output from 12MHz Oscillator Cell. Optional - Can be left unconnected for normal operation if internal oscillator  is used", 29 NC "No internal connection", 30 TxD (out) "Transmit Asynchronous Data Output", 31 DTR (out) "Data Terminal Ready Control Output / Handshake signal", 32 RTS (out) "Request To Send Control Output / Handshake signal", 33 Tab "Not internally connected, and can be left unconnected, or connected to ground (recommended)"

## GTL2010BS
designator U?
10-bit bi-directional low voltage translator, HVQFN24
pins: 1 S2, 2 S3, 3 S4, 4 S5, 5 S6, 6 S7, 7 S8, 8 S9, 9 S10, 10 D10, 11 D9, 12 D8, 13 D7, 14 D6, 15 D5, 16 D4, 17 D3, 18 D2, 19 D1, 20 DR, 21 GRef, 22 GND, 23 SR, 24 S1, 25 DIE

## GTL2010PW
designator U?
10-bit bi-directional low voltage translator, TSSOP24
footprint TSOP65P640-24AL (TSOP, 24-Leads, Body 7.8x4.4mm, Pitch 0.65mm, IPC High Density)
footprint TSOP65P640-24AM (TSOP, 24-Leads, Body 7.8x4.4mm, Pitch 0.65mm, IPC Low Density)
footprint TSOP65P640-24AN (TSOP, 24-Leads, Body 7.8x4.4mm, Pitch 0.65mm, IPC Medium Density)
pins: 1 GND, 2 SR, 3 S1, 4 S2, 5 S3, 6 S4, 7 S5, 8 S6, 9 S7, 10 S8, 11 S9, 12 S10, 13 D10, 14 D9, 15 D8, 16 D7, 17 D6, 18 D5, 19 D4, 20 D3, 21 D2, 22 D1, 23 DR, 24 GRef

## IMU-3000
designator U?
Inertial Measurement Unit with an embedded 3-axis gyroscope (+/- 250/500/1000/2000 deg/s, 16bits, 200Hz) and Digital Motion Processor, I2C interface
pins: 1 CLKIN (in) "External reference clock input", 6 AUX_DA (oc) "Interface to a 3rd party accelerometer, SDA pin. Logic levels are set to be  either VDD or VLOGIC. See Section 7 for more details.", 7 AUX_CL (oc) "Interface to a 3rd party accelerometer, SCL pin. Logic levels are set to be  either VDD or VLOGIC. See Section 7 for more details.", 8 VLOGIC (power) "Digital I/O supply voltage. VLOGIC must be <= VDD at all times.", 9 AD0 (in) "I2C Slave Address LSB", 10 REGOUT "Regulator filter capacitor connection", 11 RESV-G (in) "Reserved - Connect to Ground.", 12 INT (out) "Interrupt digital output (totem pole or open-drain)", 13 VDD (power) "Power supply voltage and Digital I/O supply voltage", 18 GND (power) "Power supply ground", 19 RESV (power) "Reserved. Do not connect.", 20 CPOUT "Charge pump capacitor connection", 21 RESV "Reserved. Do not connect.", 22 CLKOUT (out) "1MHz clock output for third-party accelerometer synchronization", 23 SCL (oc) "I2C serial clock", 24 SDA (oc) "I2C serial data"

## INA210-214
designator U?
High/Low side bidirectional current amplifier
pins: 1 Ref, 2 GND (power), 3 V+ (power), 4 Vin+, 5 Vin-, 6 OUT
text: VRef; 1M; +; R; -; Out

## LIS331DLH
designator U?
MEMS digital output motion sensor ultra low-power high performance 3-axes nano accelerometer (+/- 2/4/8 g, 0.5-1000Hz, I2C interface
pins: 1 VDD_IO (power) "Power supply for I/O pins", 4 SCL/SPC (oc) "I2C serial clock (SCL) or SPI serial port clock (SPC)", 5 GND (power) "0 V supply", 6 SDA/SDI/SDO (oc) "I2C serial data (SDA) or SPI serial data input (SDI) or 3-wire interface serial data output (SDO)", 7 SDO/SA0 (oc) "SPI serial data output (SDO) or I2C less significant bit of the device address (SA0)", 8 CS (in) "SPI enable  I2C/SPI mode selection (1: I2C mode; 0: SPI enabled)", 9 INT2 (out) "Inertial interrupt 2 (Push-pull or Open drain configurable)", 10 Res-G (in) "Connect to GND", 11 INT1 (out) "Inertial interrupt 1 (Push-pull or Open drain configurable)", 12 GND (power) "0 V supply", 13 GND (power) "0 V supply", 14 VDD (power) "Power supply", 15 Res-V (in) "Connect to Vdd", 16 GND (power) "0 V supply"

## LM73
designator U?, comment LM73CIMK-x
11 to 14 bits Digital Temperature Sensor with 2-wires Interface
pins: 1 Addr, 2 GND (power), 3 VDD (power), 4 SCL (oc), 5 ALERT (oc), 6 SDA (oc)
text: 11 to  14 bits; Temperature; Sensor Circuitry; Delta-Sigma; A/D Converter; Manufacturer's; ID Register; Control/Status; Pointer; Register; Conf. Reg.; and; Decode; Temp. Reg.; Logic; Set-Point; Alert; T-high Reg.; Comparator; T-low Reg.; 2-Wires Serial Interface

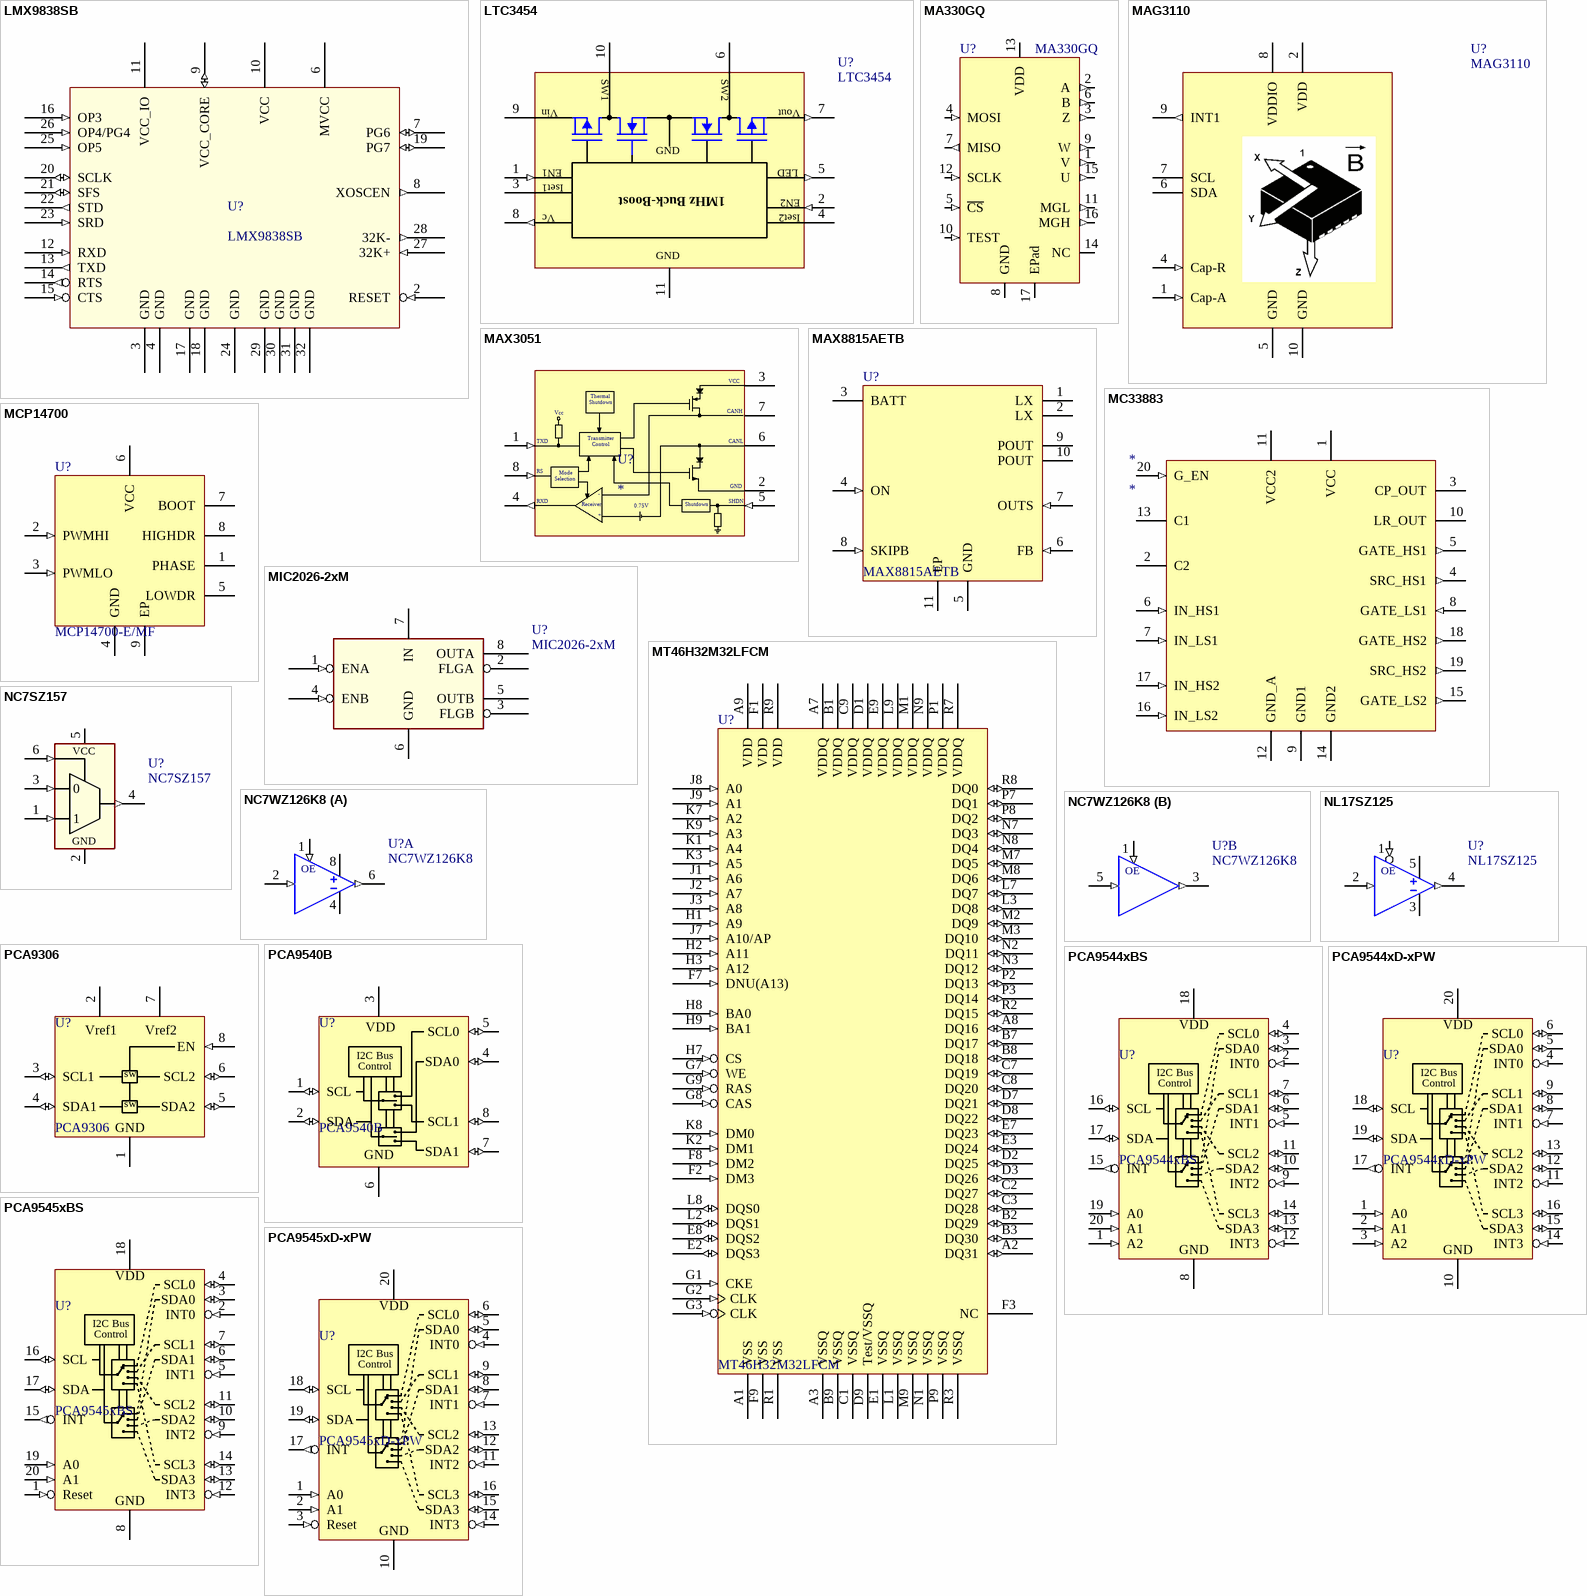
[diagram p3: symbols LMX9838SB to PCA9545xD-xPW]

## LMX9838SB
designator U?
Bluetooth® Serial Port Module
pins: 1 NC hidden "Place Pads for stability", 2 RESET (in) "Module Reset (active low, inactif if NC too)", 3 GND (power) "Must be connected to ground plane", 4 GND (power) "Must be connected to ground plane", 5 NC hidden "Place Pads for stability", 6 MVCC (power) "Module internal Voltage Regulator Input", 7 PG6 (io) "GPIO - Default setup LINK STATUS indication", 8 XOSCEN (out) "Host main Clock Request. Toggles with Main crystal (X1) enable/  disable", 9 VCC_CORE (io) "Voltage Regulator Input/Output", 10 VCC (power) "Voltage Regulator Input Baseband", 11 VCC_IO (power) "Power Supply I/O", 12 RXD (in) "Host Serial Port Receive Data", 13 TXD (out) "Host Serial Port Transmit Data", 14 RTS (out) "Host Serial Port Request To Send (active low)", 15 CTS (in) "Host Serial Port Clear To Send (active low)", 16 OP3 (in) "Pin checked during Startup Sequence for configuration option", 17 GND (power) "Must be connected to ground plane", 18 GND (power) "Must be connected to ground plane", 19 PG7 (io) "GPIO - Default setup RF traffic LED indication", 20 SCLK (io) "Audio PCM Interface Clock", 21 SFS (io) "Audio PCM Interface Frame Synchronization", 22 STD (out) "Audio PCM Interface Transmit Data Output", 23 SRD (in) "Audio PCM Interface Receive Data Input", 24 GND (power) "Must be connected to ground plane", 25 OP5 (in) "Pin checked during Startup Sequence for configuration option", 26 OP4/PG4 (in) "Pin checked during Startup Sequence for configuration option (OR GPIO)", 27 32K+ (in) "32.768 kHz Crystal Oscillator", 28 32K- (out) "32.768 kHz Crystal Oscillator", 29 GND (power) "Must be connected to ground plane", 30 GND (power) "Must be connected to ground plane", 31 GND (power) "Must be connected to ground plane", 32 GND (power) "Must be connected to ground plane", 33 NC hidden "Place Pads for stability", 34 NC hidden "Place Pads for stability", 35 NC hidden "Place Pads for stability", 36 NC hidden "Place Pads for stability", 37 NC hidden "Place Pads for stability", 38 NC hidden "Place Pads for stability", 39 NC hidden "Place Pads for stability", 40 NC hidden "Place Pads for stability"

## LTC3454
designator U?
1A Synchronous Buck-Boost High Current LED Driver
pins: 1 EN1 (in), 2 EN2 (in), 3 Iset1, 4 Iset2, 5 LED (out), 6 SW2, 7 Vout (out), 8 Vc (out), 9 Vin (power), 10 SW1, 11 GND (power)
text: 1MHz Buck-Boost

## MA330GQ
designator U?
IC ENCODER ROTARY 14 bit QFN16 3x3 mm; Manufacturer: ams; Statut de la pièce: Actif; Pour la mesure: Angle; Technologie: Effet Hall; Angle de rotation - Électrique, mécanique: 0° ~ 360°, Modes continue; Sortie: SPI; Type d’actionneur: Aimant externe, non inclus; Alimentation en tension: 3 V ~ 3,6 V; Type de montage: Montage en surface; Température d’utilisation: -40°C - +125°C; RoHS: RoHS Compliant; Category: Capteurs, transducteurs; Plage linéaire: -; Signal de sortie: -; Résistance (Ohms): -; Tolérance de résistance: -; ComponentLink1URL: https://www.monolithicpower.com/en/products/sensors/position-sensors/ma330.html; ComponentLink1Description: https://www.monolithicpower.com/en/products/sensors/position-sensors/ma330.html; Manufacturer Part Number: MA330GQ
footprint QFN4X4-16 - EPAD unconnected (Quad Flat No Lead, Plastic; 16 Terminals; Body 4 x 4 mm; Pitch 0.65 mm)
pins: 1 V (out) "Motor commutation output", 2 A (out) "Incremental output", 3 Z (out) "Motor commutation output", 4 MOSI (in) "Data in (SPI). MOSI has an internal pull-down resistor.", 5 ~{CS} (in) "Chip select (SPI). CS has an internal pull-up resistor.", 6 B (out) "Incremental output", 7 MISO (out) "Data out (SPI). MISO has an internal pull-down resistor that is enabled at a high impedance", 8 GND (power) "Supply ground", 9 W (out) "Motor commutation output", 10 TEST (in) "Connect to ground", 11 MGL (out) "Digital output indicating field strength below MGLT level", 12 SCLK (in) "Clock (SPI). SCLK has an internal pull-down resistor.", 13 VDD (power) "Supply 3.3V", 14 NC "Leave NC unconnected", 15 U (out) "Motor commutation output", 16 MGH (out) "Digital output indicating field strength above MGHT level", 17 EPad "Exposed pad"

## MAG3110
designator U?
digital 3-axis magnetometer (+/- 1000uT, 0.08 to 80Hz, I2C interface
pins: 1 Cap-A (in) "Bypass Cap for Internal Regulator", 2 VDD (power) "Power Supply, 1.95V - 3.6V", 4 Cap-R (in) "Cap for Reset Pulse", 5 GND (power) "0 V supply", 6 SDA (oc) "I2C Serial Data (Write = 0x1C; Read = 0x1D)", 7 SCL (oc) "I2C Serial Clock", 8 VDDIO (power) "Power for I/O Buffers, 1.65V - VDD", 9 INT1 (out) "Interrupt - Active High Output", 10 GND (power) "0 V supply"

## MAX3051
designator U?
pins: 1 TXD (in) "Transmit Data Input. TXD is a CMOS/TTL-compatible input from a CAN controller. TXD has an  internal 75kΩ pullup resistor.", 2 GND (power) "Ground", 3 VCC (power) "Supply Voltage. Bypass VCC to GND with a 0.1μF capacitor.", 4 RXD (out) "Receive Data Output. RXD is a CMOS/TTL-compatible output.", 5 SHDN (in) "Shutdown Input, CMOS/TTL-Compatible. Drive SHDN high to put the MAX3051 in shutdown.  SHDN has an internal 75kΩ pulldown resistor to GND.", 6 CANL "CAN Bus Line Low", 7 CANH "CAN Bus Line High", 8 RS (in) "Mode-Select Input. Drive RS low or connect to GND for high-speed operation. Connect a resistor  between RS and GND to control output slope. Drive RS high to put into standby mode (see the  Mode Selection section)."
text: Thermal; Shutdown; Vcc; Transmitter; Control; Mode; Selection; -; Receiver; 0.75V; +

## MAX8815AETB
designator U?
1A, 97% Efficiency, 30µA Quiescent Current Step-Up Converter with True Shutdown
pins: 1 LX (power) "Inductor Connection. LX pins are internally connected. Connect the LX pins to the switched side of  the inductor. LX is high impedance in shutdown.", 2 LX (power) "Inductor Connection. LX pins are internally connected. Connect the LX pins to the switched side of  the inductor. LX is high impedance in shutdown.", 3 BATT (power) "Supply Voltage Input. Connect BATT to an input supply between 1.2V and 5V. Bypass BATT to EP  with two 4.7uF ceramic capacitors or one 10uF ceramic capacitor.", 4 ON (in) "Logic On/Off Input. Drive ON low to place the MAX8815A into shutdown. During shutdown, the  control circuitry, internal switching MOSFET, and synchronous rectifier turn off and LX becomes high  impedance. Drive ON high for normal operation.", 5 GND (power), 6 FB (in) "Feedback Input. Connect FB to POUT to set VOUT = 5V. For other output voltages, connect a resistordivider  from POUT to GND (see the Setting the Output Voltage section). FB regulates to 1.265V (typ)  and is high impedance in shutdown.", 7 OUTS (in) "Power Bootstrapped Input. Connect OUTS to POUT through an RC filter.", 8 SKIPB (in) "PWM Mode Selection Input. Drive SKIPB low to select the normal mode of operation. Normal mode is  fixed PWM at medium to heavy loads and skip mode at light loads. Drive SKIPB high to select the  forced-PWM mode of operation.", 9 POUT (power) "Converter Output. Bypass POUT to EP with one 22uF tantalum capacitor.", 10 POUT (power) "Converter Output. Bypass POUT to EP with one 22uF tantalum capacitor.", 11 EP (power) "Exposed Paddle. Connect to the ground plane to optimize thermal performance. EP is internally  connected to GND. EP must be connected to GND at a single point with a star ground connection."

## MC33883
designator *
footprint SOIC127P1030-20N (SOIC, 20-Leads, Body 12.8x7.5mm, Pitch 1.27mm, IPC Medium Density)
pins: 1 VCC (power) "Supply Voltage 1", 2 C2 "Charge Pump Capacitor", 3 CP_OUT "Charge Pump Out", 4 SRC_HS1 (out) "Source 1 Output High Side", 5 GATE_HS1 (out) "Gate 1 Output High Side", 6 IN_HS1 (in) "Input High Side 1", 7 IN_LS1 (in) "Input Low Side 1", 8 GATE_LS1 (in) "Gate 1 Output Low Side", 9 GND1 (power) "Ground 1", 10 LR_OUT (power) "Linear Regulator Output", 11 VCC2 (power) "Supply Voltage 2", 12 GND_A (power) "Analog Ground", 13 C1 "Charge Pump Capacitor", 14 GND2 "Ground 2", 15 GATE_LS2 (out) "Gate 2 Output Low Side", 16 IN_LS2 (in) "Input Low Side 2", 17 IN_HS2 (in) "Input High Side 2", 18 GATE_HS2 (out) "Gate 2 Output High Side", 19 SRC_HS2 (out) "Source 2 Output High Side", 20 G_EN (in) "Global Enable"

## MCP14700
designator U?, comment MCP14700-E/MF
Dual Input Synchronous MOSFET Driver, 8-Pin DFN, Extended Temperature; PackageReference: DFN-MF8; PackageDescription: 8-Lead Plastic Dual Flat, No Lead Package (MF) - 3x3x0.9mm Body [DFN]; DatasheetVersion: revA, Sep-2009; PackageVersion: revBB, Aug-2009
footprint DFN-MF8 (SON, 8-Leads, Body 3x3mm, Pitch 0.65mm, Microchip Recommended)
pins: 1 PHASE, 2 PWMHI (in), 3 PWMLO (in), 4 GND (power), 5 LOWDR, 6 VCC (power), 7 BOOT, 8 HIGHDR, 9 EP (power)

## MIC2026-2xM
designator U?
Dual USB 500mA Power Distribution Switch, Active Low, 8-Lead SOIC
pins: 1 ENA (in), 2 FLGA (oc), 3 FLGB (oc), 4 ENB (in), 5 OUTB (power), 6 GND (power), 7 IN (power), 8 OUTA (power)

## MT46H32M32LFCM
designator U?
Mobile DDR, 512Mbit, 1.8v, 16-bit
footprint PBGA0.8-10.0x13.0-B90 (BGA; 90Balls; Body 10.0 x 13.0 mm; Pitch 0.8 mm; Low Profile)
pins: A1 VSS (power), A2 DQ31 (io), A3 VSSQ (power), A7 VDDQ (power), A8 DQ16 (io), A9 VDD (power), B1 VDDQ (power), B2 DQ29 (io), B3 DQ30 (io), B7 DQ17 (io), B8 DQ18 (io), B9 VSSQ (power), C1 VSSQ (power), C2 DQ27 (io), C3 DQ28 (io), C7 DQ19 (io), C8 DQ20 (io), C9 VDDQ (power), D1 VDDQ (power), D2 DQ25 (io), D3 DQ26 (io), D7 DQ21 (io), D8 DQ22 (io), D9 Test/VSSQ (power), E1 VSSQ (power), E2 DQS3 (io), E3 DQ24 (io), E7 DQ23 (io), E8 DQS2 (io), E9 VDDQ (power), F1 VDD (power), F2 DM3 (in), F3 NC, F7 DNU(A13) (in), F8 DM2 (in), F9 VSS (power), G1 CKE (in), G2 CLK (in), G3 CLK (in), G7 WE (in), G8 CAS (in), G9 RAS (in), H1 A9 (in), H2 A11 (in), H3 A12 (in), H7 CS (in), H8 BA0 (in), H9 BA1 (in), J1 A6 (in), J2 A7 (in), J3 A8 (in), J7 A10/AP (in), J8 A0 (in), J9 A1 (in), K1 A4 (in), K2 DM1 (in), K3 A5 (in), K7 A2 (in), K8 DM0 (in), K9 A3 (in), L1 VSSQ (power), L2 DQS1 (io), L3 DQ8 (io), L7 DQ7 (io), L8 DQS0 (io), L9 VDDQ (power), M1 VDDQ (power), M2 DQ9 (io), M3 DQ10 (io), M7 DQ5 (io), M8 DQ6 (io), M9 VSSQ (power), N1 VSSQ (power), N2 DQ11 (io), N3 DQ12 (io), N7 DQ3 (io), N8 DQ4 (io), N9 VDDQ (power), P1 VDDQ (power), P2 DQ13 (io), P3 DQ14 (io), P7 DQ1 (io), P8 DQ2 (io), P9 VSSQ (power), R1 VSS (power), R2 DQ15 (io), R3 VSSQ (power), R7 VDDQ (power), R8 DQ0 (io), R9 VDD (power)

## NC7SZ157
designator U?
2-input Non-Inverting Multiplexer, TinyLogic
pins: 1 In1 (in), 2 GND (power), 3 In0 (in), 4 Z (out), 5 VCC (power), 6 S (in)
text: 0

## NC7WZ126K8
designator U?
Dual Non-Inverting 3-State Buffer, High enable, TinyLogic
part A pins: 1 OE1 (in), 2 In1 (in), 4 GND (power), 6 Out1 (out), 8 VCC (power)
part B pins: 3 Out2 (out), 5 In2 (in), 7 OE2 (in)
part A text: OE
part B text: OE

## NL17SZ125
designator U?
Non-Inverting 3-State Buffer, Low enable, TinyLogic
pins: 1 OE (in), 2 In (in), 3 GND (power), 4 Out (out), 5 VCC (power)

## PCA9306
designator U?
Dual bidirectional I2C bus and SMBus Voltage-Level Translator
pins: 1 GND (power), 2 VREF1 (power), 3 SCL1 (io), 4 SDA1 (io), 5 SDA2 (io), 6 SCL2 (io), 7 VREF2 (power), 8 EN (in)
text: Vref1; Vref2; sw

## PCA9540B
designator U?
2-channel I2C bus multiplexer
pins: 1 SCL (io) "serial clock line", 2 SDA (io) "serial data line", 3 VDD (power) "supply voltage", 4 SDA0 (io) "serial data 0", 5 SCL0 (io) "serial clock 0", 6 GND (power) "supply ground", 7 SDA1 (io) "serial data 1", 8 SCL1 (io) "serial clock 1"
text: I2C Bus; Control

## PCA9544xBS
designator U?
4-channel I2C bus multiplexer with interrupt logic
pins: 1 A2 (in) "Address line 2", 2 INT0 (in) "Interrupt input 0", 3 SDA0 (io) "serial data 0", 4 SCL0 (io) "serial clock 0", 5 INT1 (in) "Interrupt input 1", 6 SDA1 (io) "serial data 1", 7 SCL1 (io) "serial clock 1", 8 GND (power) "supply ground", 9 INT2 (in) "Interrupt input 2", 10 SDA2 (io) "serial data 2", 11 SCL2 (io) "serial clock 2", 12 INT3 (in) "Interrupt input 3", 13 SDA3 (io) "serial data 3", 14 SCL3 (io) "serial clock 3", 15 INT (out) "Interrupt output", 16 SCL (io) "serial clock line", 17 SDA (io) "serial data line", 18 VDD (power) "supply voltage", 19 A0 (in) "Address line 0", 20 A1 (in) "Address line 1"
text: I2C Bus; Control

## PCA9544xD-xPW
designator U?
4-channel I2C bus multiplexer with interrupt logic
pins: 1 A0 (in) "Address line 0", 2 A1 (in) "Address line 1", 3 A2 (in) "Address line 2", 4 INT0 (in) "Interrupt input 0", 5 SDA0 (io) "serial data 0", 6 SCL0 (io) "serial clock 0", 7 INT1 (in) "Interrupt input 1", 8 SDA1 (io) "serial data 1", 9 SCL1 (io) "serial clock 1", 10 GND (power) "supply ground", 11 INT2 (in) "Interrupt input 2", 12 SDA2 (io) "serial data 2", 13 SCL2 (io) "serial clock 2", 14 INT3 (in) "Interrupt input 3", 15 SDA3 (io) "serial data 3", 16 SCL3 (io) "serial clock 3", 17 INT (out) "Interrupt output", 18 SCL (io) "serial clock line", 19 SDA (io) "serial data line", 20 VDD (power) "supply voltage"
text: I2C Bus; Control

## PCA9545xBS
designator U?
4-channel I2C bus multiplexer with interrupt logic and reset
pins: 1 Reset (in) "Reset line", 2 INT0 (in) "Interrupt input 0", 3 SDA0 (io) "serial data 0", 4 SCL0 (io) "serial clock 0", 5 INT1 (in) "Interrupt input 1", 6 SDA1 (io) "serial data 1", 7 SCL1 (io) "serial clock 1", 8 GND (power) "supply ground", 9 INT2 (in) "Interrupt input 2", 10 SDA2 (io) "serial data 2", 11 SCL2 (io) "serial clock 2", 12 INT3 (in) "Interrupt input 3", 13 SDA3 (io) "serial data 3", 14 SCL3 (io) "serial clock 3", 15 INT (out) "Interrupt output", 16 SCL (io) "serial clock line", 17 SDA (io) "serial data line", 18 VDD (power) "supply voltage", 19 A0 (in) "Address line 0", 20 A1 (in) "Address line 1"
text: I2C Bus; Control

## PCA9545xD-xPW
designator U?
4-channel I2C bus multiplexer with interrupt logic and reset
pins: 1 A0 (in) "Address line 0", 2 A1 (in) "Address line 1", 3 Reset (in) "Reset input", 4 INT0 (in) "Interrupt input 0", 5 SDA0 (io) "serial data 0", 6 SCL0 (io) "serial clock 0", 7 INT1 (in) "Interrupt input 1", 8 SDA1 (io) "serial data 1", 9 SCL1 (io) "serial clock 1", 10 GND (power) "supply ground", 11 INT2 (in) "Interrupt input 2", 12 SDA2 (io) "serial data 2", 13 SCL2 (io) "serial clock 2", 14 INT3 (in) "Interrupt input 3", 15 SDA3 (io) "serial data 3", 16 SCL3 (io) "serial clock 3", 17 INT (out) "Interrupt output", 18 SCL (io) "serial clock line", 19 SDA (io) "serial data line", 20 VDD (power) "supply voltage"
text: I2C Bus; Control

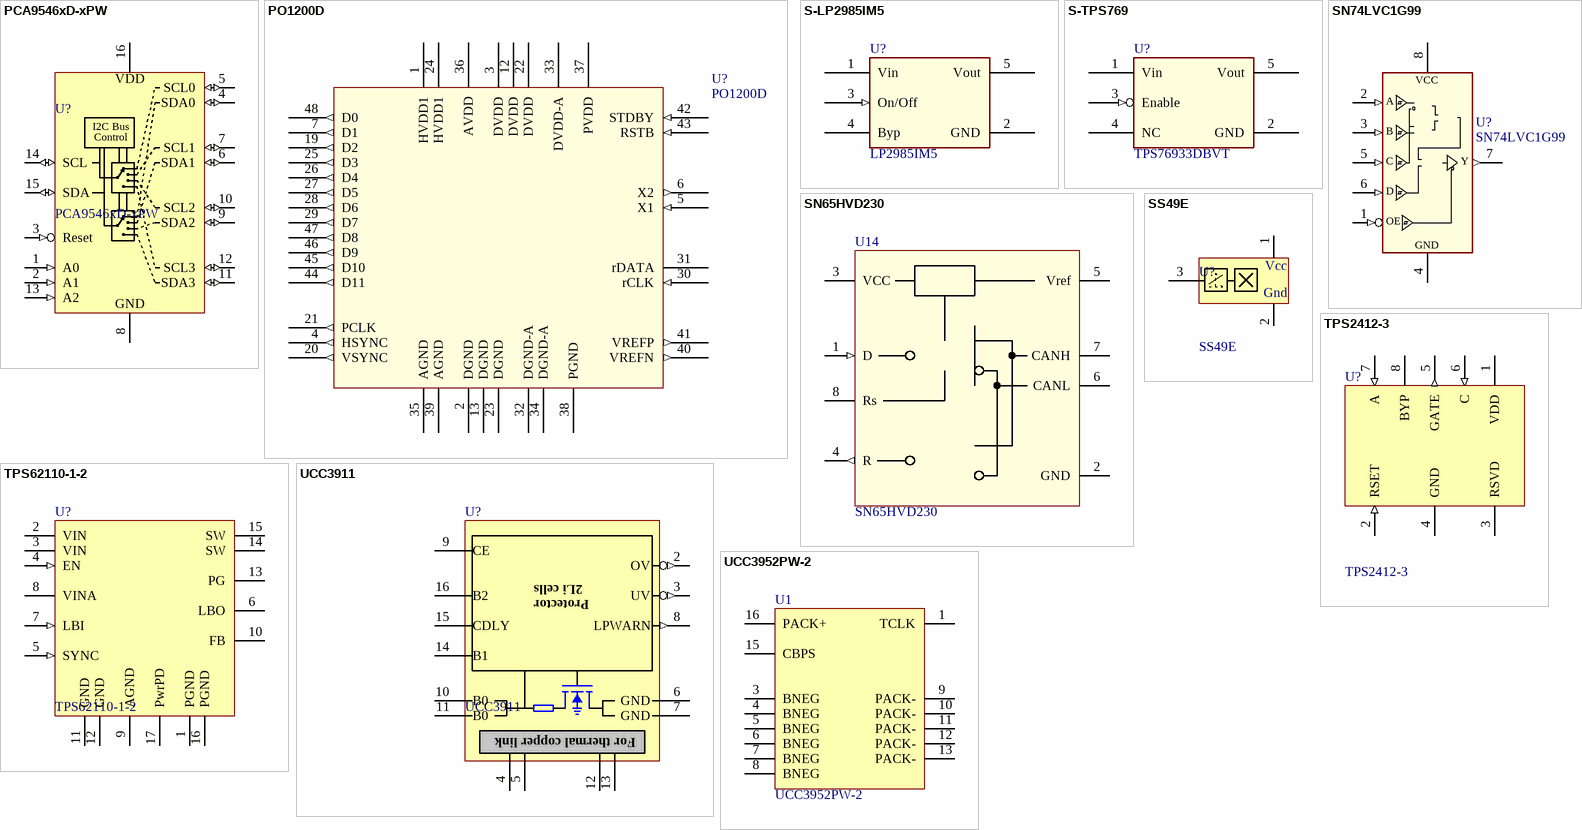
[diagram p4: symbols PCA9546xD-xPW to UCC3952PW-2]

## PCA9546xD-xPW
designator U?
4-channel I2C bus multiplexer with reset
pins: 1 A0 (in) "Address line 0", 2 A1 (in) "Address line 1", 3 Reset (in) "Reset input", 4 SDA0 (io) "serial data 0", 5 SCL0 (io) "serial clock 0", 6 SDA1 (io) "serial data 1", 7 SCL1 (io) "serial clock 1", 8 GND (power) "supply ground", 9 SDA2 (io) "serial data 2", 10 SCL2 (io) "serial clock 2", 11 SDA3 (io) "serial data 3", 12 SCL3 (io) "serial clock 3", 13 A2 (in) "Address line 2", 14 SCL (io) "serial clock line", 15 SDA (io) "serial data line", 16 VDD (power) "supply voltage"
text: I2C Bus; Control

## PO1200D
designator U?
CMOS Camera - Image Sensor with 1660x1200 Pixels
pins: 1 HVDD1 (power), 2 DGND (power), 3 DVDD (power), 4 HSYNC (out), 5 X1 (in), 6 X2 (out), 7 D1 (out), 8 N.C. hidden, 9 N.C. hidden, 10 N.C. hidden, 11 N.C. hidden, 12 DVDD (power), 13 DGND (power), 14 N.C hidden, 15 N.C hidden, 16 N.C hidden, 17 N.C hidden, 18 N.C hidden, 19 D2 (out), 20 VSYNC (out), 21 PCLK (out), 22 DVDD (power), 23 DGND (power), 24 HVDD1 (power), 25 D3 (out), 26 D4 (out), 27 D5 (out), 28 D6 (out), 29 D7 (out), 30 rCLK (in), 31 rDATA, 32 DGND-A (power), 33 DVDD-A (power), 34 DGND-A (power), 35 AGND (power), 36 AVDD (power), 37 PVDD (power), 38 PGND (power), 39 AGND (power), 40 VREFN (out), 41 VREFP (out), 42 STDBY (in), 43 RSTB (in), 44 D11 (out), 45 D10 (out), 46 D9 (out), 47 D8 (out), 48 D0 (out)

## S-LP2985IM5
designator U?, comment LP2985IM5
uPower 150 mA Low-Noise LDO, 5-Lead Small Outline Package (M5 or SOT-23/5)
pins: 1 Vin (power), 2 GND (power), 3 On/Off (in), 4 Byp, 5 Vout (power)

## S-TPS769
designator U?, comment TPS76933DBVT
uPower 100 mA LDO, 5-Lead Small Outline Package SOT-23/5
pins: 1 Vin (power), 2 GND (power), 3 Enable (in), 4 NC, 5 Vout (power)

## SN65HVD230
designator U14
IC : 3.3-V CAN TRANSCEIVERS; CommentBOM: SO8 marqué HV230Q; CommentStock: Boîte projet
footprint SO8 (Footprint not found)
footprint SOIC127P600X175-8L (SOIC, 8-Leads, Body 5.0x4.0mm, Pitch 1.27mm, IPC High Density)
pins: 1 D (in), 2 GND (power), 3 VCC (power), 4 R (out), 5 Vref, 6 CANL (oc), 7 CANH (oe), 8 Rs

## SN74LVC1G99
designator U?
Ultra-configurable multiple-function gate with 3-State output, TinyLogic
pins: 1 OE (in), 2 A (in), 3 B (in), 4 GND (power), 5 C (in), 6 D (in), 7 Y (out), 8 VCC (power)
3 alternate drawings of the same symbol

## SS49E
designator U?
Hall-Effect Latch for High-Temperature Operation; Publisher: Altium Limited
footprint HONEYWELL-SS49E-T3 (SS49 Hall-Effect Sensors' series - Style T3)
pins: 1 VCC (power), 2 GND (power), 3 OUT (oc)
text: Vcc; Gnd

## TPS2412-3
designator U?
N+1 and ORing Power Rail Controller, 3 to 16.5 V
pins: 1 VDD (power) "Input power for the gate drive charge pump and internal controls. VDD must be connected to a supply voltage >= 3 V.", 2 RSET (in) "Connect a resistor to ground to program the turn-off threshold. Leaving RSET open results in a slightly positive V(A-C) turn-off threshold.", 3 RSVD (power) "This pin must be connected to GND.", 4 GND (power), 5 GATE (out) "Connect to the gate of the external MOSFET. Controls the MOSFET to emulate a low forward-voltage diode.", 6 C (in) "Voltage sense input that connects to the simulated diode cathode. Connect to the MOSFET drain in the typical configuration.", 7 A (in) "Voltage sense input that connects to the simulated diode anode. A also serves as the reference for the charge-pump bias supply on BYP. Connect to the MOSFET source in the typical configuration.", 8 BYP "Connect a storage capacitor from BYP to A to filter the gate drive supply voltage."

## TPS62110-1-2
designator U?
Synchronous Step-down Converter,  17-Vin, Adjustable 1.2 V to 16 or 3.3 and 5.0 fixed Vout, 1.5-A
pins: 1 PGND (power), 2 VIN (power), 3 VIN (power), 4 EN (in), 5 SYNC (in), 6 LBO (oc) "Open-drain, low-battery output. This pin is pulled low if LBI is below its threshold.", 7 LBI (in) "Low-battery input. Compare with 1.256 V", 8 VINA (power), 9 AGND (power), 10 FB "For feedback comparaison with 1.153 V when adjustable, else directly connected to the output.", 11 GND (power), 12 GND (power), 13 PG (oc) "Power good comparator output", 14 SW (power) "Connect the inductor to this pin. This pin is the switch pin and connected to the drain of the internal power MOSFETS.", 15 SW (power) "Connect the inductor to this pin. This pin is the switch pin and connected to the drain of the internal power MOSFETS.", 16 PGND (power), 17 PwrPD (power)

## UCC3911
designator U?
Dual-Cells Lithium-Ion Battery Protection IC
pins: 2 OV (out), 3 UV (out), 4 SUBS, 5 SUBS, 6 GND (power), 7 GND (power), 8 LPWARN (out), 9 CE, 10 B0 (power), 11 B0 (power), 12 SUBS, 13 SUBS, 14 B1 (power), 15 CDLY, 16 B2 (power)
text: 2Li cells; Protector; For thermal copper link

## UCC3952PW-2
designator U1
Single-Cell Lithium-Ion Battery Protection IC
footprint TSSOP16 (Footprint not found)
pins: 1 TCLK, 3 BNEG (power), 4 BNEG (power), 5 BNEG (power), 6 BNEG (power), 7 BNEG (power), 8 BNEG (power), 9 PACK- (power), 10 PACK- (power), 11 PACK- (power), 12 PACK- (power), 13 PACK- (power), 15 CBPS (power), 16 PACK+ (power)